# EAGLE library part CY8C4014LQI-422 (library CY8C4014LQI-422)
MCU 32-bit ARM Cortex M0 RISC 16KB Flash 2.5V/3.3V/5V 24-Pin QFN EP Tray Source: Datasheet <https://www.cypress.com/file/138646/download>
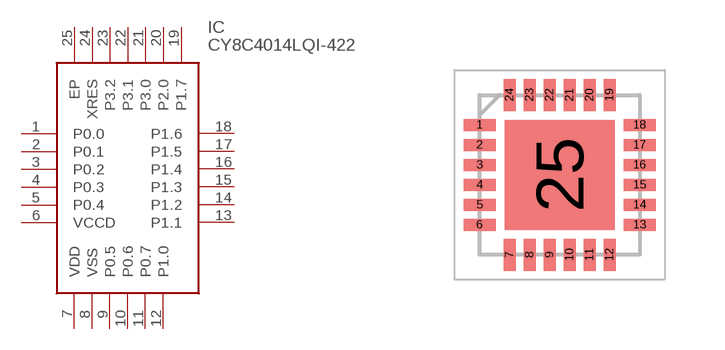
[diagram p0: symbol with the pads of QFN50P400X400X60-25N; footprint QFN50P400X400X60-25N]

Designator prefix IC

## CY8C4014LQI-422 (Arrow_Part_Number: CY8C4014LQI-422; Arrow_Price-Stock: https://www.arrow.com/en/products/cy8c4014lqi-422/cypress-semiconductor; Description: MCU 32-bit ARM Cortex M0 RISC 16KB Flash 2.5V/3.3V/5V 24-Pin QFN EP Tray; Height: 0.6mm; Manufacturer_Name: Infineon; Manufacturer_Part_Number: CY8C4014LQI-422; Mouser_Part_Number: 727-CY8C4014LQI-422; Mouser_Price-Stock: https://www.mouser.co.uk/ProductDetail/Infineon-Technologies/CY8C4014LQI-422?qs=h2odU9YHRxwBFdYZzj5f5w%3D%3D)  [QFN50P400X400X60-25N]
1  P0.0
2  P0.1
3  P0.2
4  P0.3
5  P0.4
6  VCCD
7  VDD
8  VSS
9  P0.5
10  P0.6
11  P0.7
12  P1.0
13  P1.1
14  P1.2
15  P1.3
16  P1.4
17  P1.5
18  P1.6
19  P1.7
20  P2.0
21  P3.0
22  P3.1
23  P3.2
24  XRES
25  EP

## Footprint QFN50P400X400X60-25N (pad centres in mm)
24-pin QFN
smd 0.8 x 0.3: 1 -2,1.25; 2 -2,0.75; 3 -2,0.25; 4 -2,-0.25; 5 -2,-0.75; 6 -2,-1.25; 13 2,-1.25; 14 2,-0.75; 15 2,-0.25; 16 2,0.25; 17 2,0.75; 18 2,1.25
smd 0.3 x 0.8: 7 -1.25,-2; 8 -0.75,-2; 9 -0.25,-2; 10 0.25,-2; 11 0.75,-2; 12 1.25,-2; 19 1.25,2; 20 0.75,2; 21 0.25,2; 22 -0.25,2; 23 -0.75,2; 24 -1.25,2
smd 2.75 x 2.75: 25 0,0